# Altium integrated library NSC LDO.IntLib: 2590 symbols (part 18 of 64)
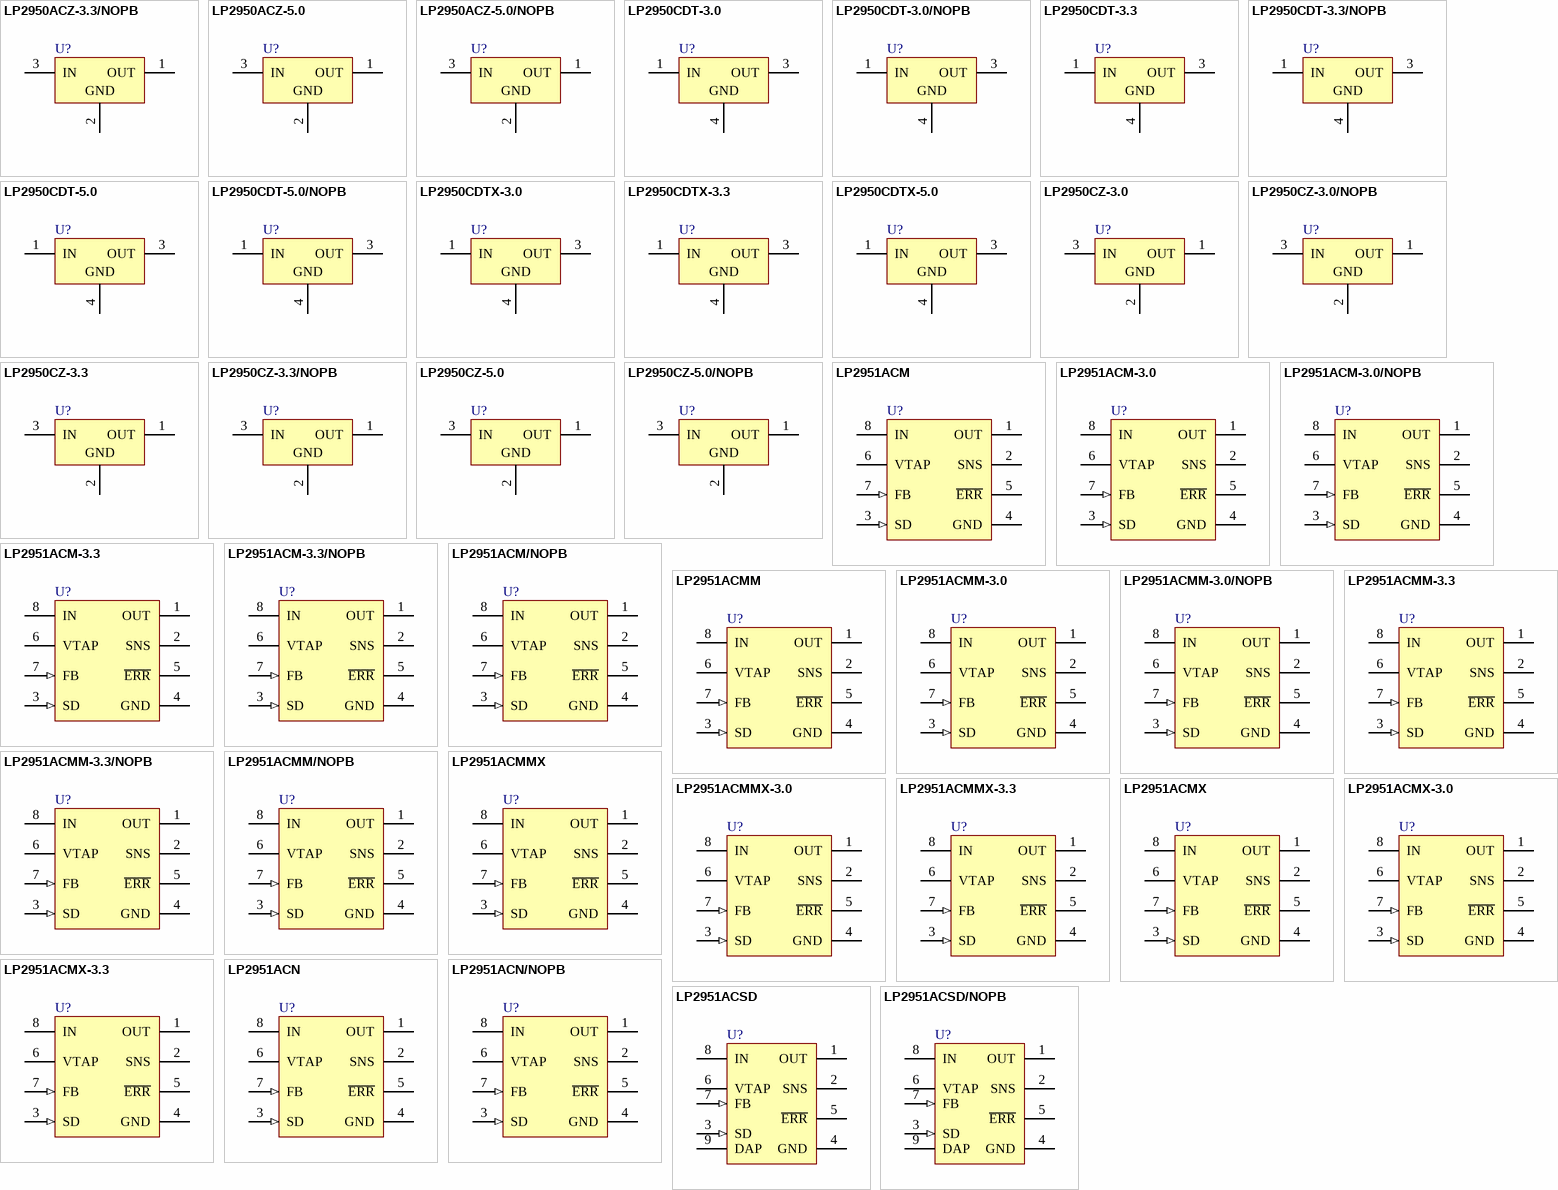
[diagram p82: symbols LP2950ACZ-3.3/NOPB to LP2951ACSD/NOPB]

## LP2951ACM-3.0/NOPB
designator U?
Series of Adjustable Micropower Voltage Regulators, 8-pin Narrow SOIC, Pb-Free; PartNumber: LP2951ACM-3.0/NOPB; Manufacturer: National Semiconductor; PackageTopMarking: NSZXTT*2951A*CM30DD; PowerWise: N; CompType: LDO IC; Published: 1-Mar-2010; DatasheetVersion: Jun-2009; PackageVersion: revM, May-2009; PackageReference: M08A; Publisher: Altium Limited; PackageDescription: SOIC Narrow, 4.9 x 3.9 x 1.45mm, 8 Lead, 1.27mm Pitch; Supplier 1: Digi-Key; Supplier Part Number 1: LP2951ACM-3.0-ND; Supplier 2: Farnell; Supplier Part Number 2: 1559557; RoHS: Y; PinCount: 8; Code_JEDEC: MS-012-AA; Code_IPC: SOIC127P600-8; ComponentLink1Description: LP2951 Datasheet; ComponentLink1URL: http://www.national.com/ds/LP/LP2951.pdf; ComponentLink2Description: LP2951 Web Page; ComponentLink2URL: http://www.national.com/pf/LP/LP2951.html; ComponentLink3Description: M08A Package Page; ComponentLink3URL: http://www.national.com/packaging/folders/m08a.html
footprint M08A_N (SOIC, 8-Leads, Body 4.9x3.9mm, Pitch 1.27mm, IPC Medium Density)
footprint M08A_L (SOIC, 8-Leads, Body 4.9x3.9mm, Pitch 1.27mm, IPC High Density)
footprint M08A_M (SOIC, 8-Leads, Body 4.9x3.9mm, Pitch 1.27mm, IPC Low Density)
pins: 1 OUT (power), 2 SNS, 3 SD (in), 4 GND (power), 5 ~{ERR} (oc), 6 VTAP, 7 FB (in), 8 IN (power)

## LP2951ACM-3.3
designator U?
Series of Adjustable Micropower Voltage Regulators, 8-pin Narrow SOIC; PartNumber: LP2951ACM-3.3; Manufacturer: National Semiconductor; PackageTopMarking: NSZXTT*2951A*CM33DD; PowerWise: N; CompType: LDO IC; Published: 4-Dec-2008; LatestRevisionDate: 07-Sep-2009; LatestRevisionNote: Bar removed from pin 3; DatasheetVersion: Jun-2009; PackageVersion: revM, May-2009; PackageReference: M08A; Publisher: Altium Limited; PackageDescription: SOIC Narrow, 4.9 x 3.9 x 1.45mm, 8 Lead, 1.27mm Pitch; Supplier 1: Farnell; Supplier Part Number 1: 4343633; RoHS: N; PinCount: 8; Code_JEDEC: MS-012-AA; Code_IPC: SOIC127P600-8; ComponentLink1Description: LP2951 Datasheet; ComponentLink1URL: http://www.national.com/ds/LP/LP2951.pdf; ComponentLink2Description: LP2951 Web Page; ComponentLink2URL: http://www.national.com/pf/LP/LP2951.html; ComponentLink3Description: M08A Package Page; ComponentLink3URL: http://www.national.com/packaging/folders/m08a.html
footprint M08A_N (SOIC, 8-Leads, Body 4.9x3.9mm, Pitch 1.27mm, IPC Medium Density)
footprint M08A_L (SOIC, 8-Leads, Body 4.9x3.9mm, Pitch 1.27mm, IPC High Density)
footprint M08A_M (SOIC, 8-Leads, Body 4.9x3.9mm, Pitch 1.27mm, IPC Low Density)
pins: 1 OUT (power), 2 SNS, 3 SD (in), 4 GND (power), 5 ~{ERR} (oc), 6 VTAP, 7 FB (in), 8 IN (power)

## LP2951ACM-3.3/NOPB
designator U?
Series of Adjustable Micropower Voltage Regulators, 8-pin Narrow SOIC, Pb-Free; PartNumber: LP2951ACM-3.3/NOPB; Manufacturer: National Semiconductor; PackageTopMarking: NSZXTT*2951A*CM33DD; PowerWise: N; CompType: LDO IC; Published: 1-Mar-2010; DatasheetVersion: Jun-2009; PackageVersion: revM, May-2009; PackageReference: M08A; Publisher: Altium Limited; PackageDescription: SOIC Narrow, 4.9 x 3.9 x 1.45mm, 8 Lead, 1.27mm Pitch; Supplier 1: Digi-Key; Supplier Part Number 1: LP2951ACM-3.3-ND; Supplier 2: Farnell; Supplier Part Number 2: 1469119; RoHS: Y; PinCount: 8; Code_JEDEC: MS-012-AA; Code_IPC: SOIC127P600-8; ComponentLink1Description: LP2951 Datasheet; ComponentLink1URL: http://www.national.com/ds/LP/LP2951.pdf; ComponentLink2Description: LP2951 Web Page; ComponentLink2URL: http://www.national.com/pf/LP/LP2951.html; ComponentLink3Description: M08A Package Page; ComponentLink3URL: http://www.national.com/packaging/folders/m08a.html
footprint M08A_N (SOIC, 8-Leads, Body 4.9x3.9mm, Pitch 1.27mm, IPC Medium Density)
footprint M08A_L (SOIC, 8-Leads, Body 4.9x3.9mm, Pitch 1.27mm, IPC High Density)
footprint M08A_M (SOIC, 8-Leads, Body 4.9x3.9mm, Pitch 1.27mm, IPC Low Density)
pins: 1 OUT (power), 2 SNS, 3 SD (in), 4 GND (power), 5 ~{ERR} (oc), 6 VTAP, 7 FB (in), 8 IN (power)

## LP2951ACM/NOPB
designator U?
Series of Adjustable Micropower Voltage Regulators, 8-pin Narrow SOIC, Pb-Free; PartNumber: LP2951ACM/NOPB; Manufacturer: National Semiconductor; PackageTopMarking: NSZXTT*2951*ACMDD; PowerWise: N; CompType: LDO IC; Published: 1-Mar-2010; DatasheetVersion: Jun-2009; PackageVersion: revM, May-2009; PackageReference: M08A; Publisher: Altium Limited; PackageDescription: SOIC Narrow, 4.9 x 3.9 x 1.45mm, 8 Lead, 1.27mm Pitch; Supplier 1: Digi-Key; Supplier Part Number 1: LP2951ACM-ND; RoHS: Y; PinCount: 8; Code_JEDEC: MS-012-AA; Code_IPC: SOIC127P600-8; ComponentLink1Description: LP2951 Datasheet; ComponentLink1URL: http://www.national.com/ds/LP/LP2951.pdf; ComponentLink2Description: LP2951 Web Page; ComponentLink2URL: http://www.national.com/pf/LP/LP2951.html; ComponentLink3Description: M08A Package Page; ComponentLink3URL: http://www.national.com/packaging/folders/m08a.html
footprint M08A_N (SOIC, 8-Leads, Body 4.9x3.9mm, Pitch 1.27mm, IPC Medium Density)
footprint M08A_L (SOIC, 8-Leads, Body 4.9x3.9mm, Pitch 1.27mm, IPC High Density)
footprint M08A_M (SOIC, 8-Leads, Body 4.9x3.9mm, Pitch 1.27mm, IPC Low Density)
pins: 1 OUT (power), 2 SNS, 3 SD (in), 4 GND (power), 5 ~{ERR} (oc), 6 VTAP, 7 FB (in), 8 IN (power)

## LP2951ACMM
designator U?
Series of Adjustable Micropower Voltage Regulators, 8-pin Mini SOIC; PartNumber: LP2951ACMM; Manufacturer: National Semiconductor; PackageTopMarking: ZXTT*L0DA; PowerWise: N; CompType: LDO IC; Published: 4-Dec-2008; LatestRevisionDate: 07-Sep-2009; LatestRevisionNote: Bar removed from pin 3; DatasheetVersion: Jun-2009; PackageVersion: revF, Apr-2008; PackageReference: MUA08A; Publisher: Altium Limited; PackageDescription: MINI SOIC, .118 x .118 x .034in, 8 Lead, .0256in Pitch; RoHS: N; PinCount: 8; Code_JEDEC: MO-187-AA; ComponentLink1Description: LP2951 Datasheet; ComponentLink1URL: http://www.national.com/ds/LP/LP2951.pdf; ComponentLink2Description: LP2951 Web Page; ComponentLink2URL: http://www.national.com/pf/LP/LP2951.html; ComponentLink3Description: MUA08A Package Page; ComponentLink3URL: http://www.national.com/packaging/folders/mua08a.html
footprint MUA08A_N (TSOP, 8-Leads, Body 3x3mm, Pitch 0.65mm, IPC Medium Density)
footprint MUA08A_L (TSOP, 8-Leads, Body 3x3mm, Pitch 0.65mm, IPC High Density)
footprint MUA08A_M (TSOP, 8-Leads, Body 3x3mm, Pitch 0.65mm, IPC Low Density)
pins: 1 OUT (power), 2 SNS, 3 SD (in), 4 GND (power), 5 ~{ERR} (oc), 6 VTAP, 7 FB (in), 8 IN (power)

## LP2951ACMM-3.0
designator U?
Series of Adjustable Micropower Voltage Regulators, 8-pin Mini SOIC; PartNumber: LP2951ACMM-3.0; Manufacturer: National Semiconductor; PackageTopMarking: ZXTT*L0BA; PowerWise: N; CompType: LDO IC; Published: 4-Dec-2008; LatestRevisionDate: 07-Sep-2009; LatestRevisionNote: Bar removed from pin 3; DatasheetVersion: Jun-2009; PackageVersion: revF, Apr-2008; PackageReference: MUA08A; Publisher: Altium Limited; PackageDescription: MINI SOIC, .118 x .118 x .034in, 8 Lead, .0256in Pitch; Supplier 1: Digi-Key; Supplier Part Number 1: LP2951ACMM-3.0TR-ND; Supplier 2: Digi-Key; Supplier Part Number 2: LP2951ACMM-3.0CT-ND; RoHS: N; PinCount: 8; Code_JEDEC: MO-187-AA; ComponentLink1Description: LP2951 Datasheet; ComponentLink1URL: http://www.national.com/ds/LP/LP2951.pdf; ComponentLink2Description: LP2951 Web Page; ComponentLink2URL: http://www.national.com/pf/LP/LP2951.html; ComponentLink3Description: MUA08A Package Page; ComponentLink3URL: http://www.national.com/packaging/folders/mua08a.html
footprint MUA08A_N (TSOP, 8-Leads, Body 3x3mm, Pitch 0.65mm, IPC Medium Density)
footprint MUA08A_L (TSOP, 8-Leads, Body 3x3mm, Pitch 0.65mm, IPC High Density)
footprint MUA08A_M (TSOP, 8-Leads, Body 3x3mm, Pitch 0.65mm, IPC Low Density)
pins: 1 OUT (power), 2 SNS, 3 SD (in), 4 GND (power), 5 ~{ERR} (oc), 6 VTAP, 7 FB (in), 8 IN (power)

## LP2951ACMM-3.0/NOPB
designator U?
Series of Adjustable Micropower Voltage Regulators, 8-pin Mini SOIC, Pb-Free; PartNumber: LP2951ACMM-3.0/NOPB; Manufacturer: National Semiconductor; PackageTopMarking: ZXTT*L0BA; PowerWise: N; CompType: LDO IC; Published: 1-Mar-2010; DatasheetVersion: Jun-2009; PackageVersion: revF, Apr-2008; PackageReference: MUA08A; Publisher: Altium Limited; PackageDescription: MINI SOIC, .118 x .118 x .034in, 8 Lead, .0256in Pitch; Supplier 1: Digi-Key; Supplier Part Number 1: LP2951ACMM-3.0/NOPBTR-ND; Supplier 2: Digi-Key; Supplier Part Number 2: LP2951ACMM-3.0/NOPBCT-ND; Supplier 3: Digi-Key; Supplier Part Number 3: LP2951ACMM-3.0/NOPBDKR-ND; RoHS: Y; PinCount: 8; Code_JEDEC: MO-187-AA; ComponentLink1Description: LP2951 Datasheet; ComponentLink1URL: http://www.national.com/ds/LP/LP2951.pdf; ComponentLink2Description: LP2951 Web Page; ComponentLink2URL: http://www.national.com/pf/LP/LP2951.html; ComponentLink3Description: MUA08A Package Page; ComponentLink3URL: http://www.national.com/packaging/folders/mua08a.html
footprint MUA08A_N (TSOP, 8-Leads, Body 3x3mm, Pitch 0.65mm, IPC Medium Density)
footprint MUA08A_L (TSOP, 8-Leads, Body 3x3mm, Pitch 0.65mm, IPC High Density)
footprint MUA08A_M (TSOP, 8-Leads, Body 3x3mm, Pitch 0.65mm, IPC Low Density)
pins: 1 OUT (power), 2 SNS, 3 SD (in), 4 GND (power), 5 ~{ERR} (oc), 6 VTAP, 7 FB (in), 8 IN (power)

## LP2951ACMM-3.3
designator U?
Series of Adjustable Micropower Voltage Regulators, 8-pin Mini SOIC; PartNumber: LP2951ACMM-3.3; Manufacturer: National Semiconductor; PackageTopMarking: ZXTT*L0CA; PowerWise: N; CompType: LDO IC; Published: 4-Dec-2008; LatestRevisionDate: 07-Sep-2009; LatestRevisionNote: Bar removed from pin 3; DatasheetVersion: Jun-2009; PackageVersion: revF, Apr-2008; PackageReference: MUA08A; Publisher: Altium Limited; PackageDescription: MINI SOIC, .118 x .118 x .034in, 8 Lead, .0256in Pitch; RoHS: N; PinCount: 8; Code_JEDEC: MO-187-AA; ComponentLink1Description: LP2951 Datasheet; ComponentLink1URL: http://www.national.com/ds/LP/LP2951.pdf; ComponentLink2Description: LP2951 Web Page; ComponentLink2URL: http://www.national.com/pf/LP/LP2951.html; ComponentLink3Description: MUA08A Package Page; ComponentLink3URL: http://www.national.com/packaging/folders/mua08a.html
footprint MUA08A_N (TSOP, 8-Leads, Body 3x3mm, Pitch 0.65mm, IPC Medium Density)
footprint MUA08A_L (TSOP, 8-Leads, Body 3x3mm, Pitch 0.65mm, IPC High Density)
footprint MUA08A_M (TSOP, 8-Leads, Body 3x3mm, Pitch 0.65mm, IPC Low Density)
pins: 1 OUT (power), 2 SNS, 3 SD (in), 4 GND (power), 5 ~{ERR} (oc), 6 VTAP, 7 FB (in), 8 IN (power)

## LP2951ACMM-3.3/NOPB
designator U?
Series of Adjustable Micropower Voltage Regulators, 8-pin Mini SOIC, Pb-Free; PartNumber: LP2951ACMM-3.3/NOPB; Manufacturer: National Semiconductor; PackageTopMarking: ZXTT*L0CA; PowerWise: N; CompType: LDO IC; Published: 1-Mar-2010; DatasheetVersion: Jun-2009; PackageVersion: revF, Apr-2008; PackageReference: MUA08A; Publisher: Altium Limited; PackageDescription: MINI SOIC, .118 x .118 x .034in, 8 Lead, .0256in Pitch; Supplier 1: Digi-Key; Supplier Part Number 1: LP2951ACMM-3.3TR-ND; Supplier 2: Digi-Key; Supplier Part Number 2: LP2951ACMM-3.3CT-ND; Supplier 3: Digi-Key; Supplier Part Number 3: LP2951ACMM-3.3DKR-ND; Supplier 4: Farnell; Supplier Part Number 4: 1559558; RoHS: Y; PinCount: 8; Code_JEDEC: MO-187-AA; ComponentLink1Description: LP2951 Datasheet; ComponentLink1URL: http://www.national.com/ds/LP/LP2951.pdf; ComponentLink2Description: LP2951 Web Page; ComponentLink2URL: http://www.national.com/pf/LP/LP2951.html; ComponentLink3Description: MUA08A Package Page; ComponentLink3URL: http://www.national.com/packaging/folders/mua08a.html
footprint MUA08A_N (TSOP, 8-Leads, Body 3x3mm, Pitch 0.65mm, IPC Medium Density)
footprint MUA08A_L (TSOP, 8-Leads, Body 3x3mm, Pitch 0.65mm, IPC High Density)
footprint MUA08A_M (TSOP, 8-Leads, Body 3x3mm, Pitch 0.65mm, IPC Low Density)
pins: 1 OUT (power), 2 SNS, 3 SD (in), 4 GND (power), 5 ~{ERR} (oc), 6 VTAP, 7 FB (in), 8 IN (power)

## LP2951ACMM/NOPB
designator U?
Series of Adjustable Micropower Voltage Regulators, 8-pin Mini SOIC, Pb-Free; PartNumber: LP2951ACMM/NOPB; Manufacturer: National Semiconductor; PackageTopMarking: ZXTT*L0DA; PowerWise: N; CompType: LDO IC; Published: 1-Mar-2010; DatasheetVersion: Jun-2009; PackageVersion: revF, Apr-2008; PackageReference: MUA08A; Publisher: Altium Limited; PackageDescription: MINI SOIC, .118 x .118 x .034in, 8 Lead, .0256in Pitch; Supplier 1: Digi-Key; Supplier Part Number 1: LP2951ACMMTR-ND; Supplier 2: Digi-Key; Supplier Part Number 2: LP2951ACMMCT-ND; Supplier 3: Digi-Key; Supplier Part Number 3: LP2951ACMMDKR-ND; Supplier 4: Farnell; Supplier Part Number 4: 1469120; RoHS: Y; PinCount: 8; Code_JEDEC: MO-187-AA; ComponentLink1Description: LP2951 Datasheet; ComponentLink1URL: http://www.national.com/ds/LP/LP2951.pdf; ComponentLink2Description: LP2951 Web Page; ComponentLink2URL: http://www.national.com/pf/LP/LP2951.html; ComponentLink3Description: MUA08A Package Page; ComponentLink3URL: http://www.national.com/packaging/folders/mua08a.html
footprint MUA08A_N (TSOP, 8-Leads, Body 3x3mm, Pitch 0.65mm, IPC Medium Density)
footprint MUA08A_L (TSOP, 8-Leads, Body 3x3mm, Pitch 0.65mm, IPC High Density)
footprint MUA08A_M (TSOP, 8-Leads, Body 3x3mm, Pitch 0.65mm, IPC Low Density)
pins: 1 OUT (power), 2 SNS, 3 SD (in), 4 GND (power), 5 ~{ERR} (oc), 6 VTAP, 7 FB (in), 8 IN (power)

## LP2951ACMMX
designator U?
Series of Adjustable Micropower Voltage Regulators, 8-pin Mini SOIC; PartNumber: LP2951ACMMX; Manufacturer: National Semiconductor; PackageTopMarking: ZXTT*L0DA; PowerWise: N; CompType: LDO IC; Published: 1-Mar-2010; DatasheetVersion: Jun-2009; PackageVersion: revF, Apr-2008; PackageReference: MUA08A; Publisher: Altium Limited; PackageDescription: MINI SOIC, .118 x .118 x .034in, 8 Lead, .0256in Pitch; RoHS: N; PinCount: 8; Code_JEDEC: MO-187-AA; ComponentLink1Description: LP2951 Datasheet; ComponentLink1URL: http://www.national.com/ds/LP/LP2951.pdf; ComponentLink2Description: LP2951 Web Page; ComponentLink2URL: http://www.national.com/pf/LP/LP2951.html; ComponentLink3Description: MUA08A Package Page; ComponentLink3URL: http://www.national.com/packaging/folders/mua08a.html
footprint MUA08A_N (TSOP, 8-Leads, Body 3x3mm, Pitch 0.65mm, IPC Medium Density)
footprint MUA08A_L (TSOP, 8-Leads, Body 3x3mm, Pitch 0.65mm, IPC High Density)
footprint MUA08A_M (TSOP, 8-Leads, Body 3x3mm, Pitch 0.65mm, IPC Low Density)
pins: 1 OUT (power), 2 SNS, 3 SD (in), 4 GND (power), 5 ~{ERR} (oc), 6 VTAP, 7 FB (in), 8 IN (power)

## LP2951ACMMX-3.0
designator U?
Series of Adjustable Micropower Voltage Regulators, 8-pin Mini SOIC; PartNumber: LP2951ACMMX-3.0; Manufacturer: National Semiconductor; PackageTopMarking: ZXTT*L0BA; PowerWise: N; CompType: LDO IC; Published: 1-Mar-2010; DatasheetVersion: Jun-2009; PackageVersion: revF, Apr-2008; PackageReference: MUA08A; Publisher: Altium Limited; PackageDescription: MINI SOIC, .118 x .118 x .034in, 8 Lead, .0256in Pitch; Supplier 1: Digi-Key; Supplier Part Number 1: LP2951ACMMX-3.0TR-ND; Supplier 2: Digi-Key; Supplier Part Number 2: LP2951ACMMX-3.0CT-ND; RoHS: N; PinCount: 8; Code_JEDEC: MO-187-AA; ComponentLink1Description: LP2951 Datasheet; ComponentLink1URL: http://www.national.com/ds/LP/LP2951.pdf; ComponentLink2Description: LP2951 Web Page; ComponentLink2URL: http://www.national.com/pf/LP/LP2951.html; ComponentLink3Description: MUA08A Package Page; ComponentLink3URL: http://www.national.com/packaging/folders/mua08a.html
footprint MUA08A_N (TSOP, 8-Leads, Body 3x3mm, Pitch 0.65mm, IPC Medium Density)
footprint MUA08A_L (TSOP, 8-Leads, Body 3x3mm, Pitch 0.65mm, IPC High Density)
footprint MUA08A_M (TSOP, 8-Leads, Body 3x3mm, Pitch 0.65mm, IPC Low Density)
pins: 1 OUT (power), 2 SNS, 3 SD (in), 4 GND (power), 5 ~{ERR} (oc), 6 VTAP, 7 FB (in), 8 IN (power)

## LP2951ACMMX-3.3
designator U?
Series of Adjustable Micropower Voltage Regulators, 8-pin Mini SOIC; PartNumber: LP2951ACMMX-3.3; Manufacturer: National Semiconductor; PackageTopMarking: ZXTT*L0CA; PowerWise: N; CompType: LDO IC; Published: 1-Mar-2010; DatasheetVersion: Jun-2009; PackageVersion: revF, Apr-2008; PackageReference: MUA08A; Publisher: Altium Limited; PackageDescription: MINI SOIC, .118 x .118 x .034in, 8 Lead, .0256in Pitch; RoHS: N; PinCount: 8; Code_JEDEC: MO-187-AA; ComponentLink1Description: LP2951 Datasheet; ComponentLink1URL: http://www.national.com/ds/LP/LP2951.pdf; ComponentLink2Description: LP2951 Web Page; ComponentLink2URL: http://www.national.com/pf/LP/LP2951.html; ComponentLink3Description: MUA08A Package Page; ComponentLink3URL: http://www.national.com/packaging/folders/mua08a.html
footprint MUA08A_N (TSOP, 8-Leads, Body 3x3mm, Pitch 0.65mm, IPC Medium Density)
footprint MUA08A_L (TSOP, 8-Leads, Body 3x3mm, Pitch 0.65mm, IPC High Density)
footprint MUA08A_M (TSOP, 8-Leads, Body 3x3mm, Pitch 0.65mm, IPC Low Density)
pins: 1 OUT (power), 2 SNS, 3 SD (in), 4 GND (power), 5 ~{ERR} (oc), 6 VTAP, 7 FB (in), 8 IN (power)

## LP2951ACMX
designator U?
Series of Adjustable Micropower Voltage Regulators, 8-pin Narrow SOIC; PartNumber: LP2951ACMX; Manufacturer: National Semiconductor; PackageTopMarking: NSZXTT*2951*ACMDD; PowerWise: N; CompType: LDO IC; Published: 1-Mar-2010; DatasheetVersion: Jun-2009; PackageVersion: revM, May-2009; PackageReference: M08A; Publisher: Altium Limited; PackageDescription: SOIC Narrow, 4.9 x 3.9 x 1.45mm, 8 Lead, 1.27mm Pitch; RoHS: N; PinCount: 8; Code_JEDEC: MS-012-AA; Code_IPC: SOIC127P600-8; ComponentLink1Description: LP2951 Datasheet; ComponentLink1URL: http://www.national.com/ds/LP/LP2951.pdf; ComponentLink2Description: LP2951 Web Page; ComponentLink2URL: http://www.national.com/pf/LP/LP2951.html; ComponentLink3Description: M08A Package Page; ComponentLink3URL: http://www.national.com/packaging/folders/m08a.html
footprint M08A_N (SOIC, 8-Leads, Body 4.9x3.9mm, Pitch 1.27mm, IPC Medium Density)
footprint M08A_L (SOIC, 8-Leads, Body 4.9x3.9mm, Pitch 1.27mm, IPC High Density)
footprint M08A_M (SOIC, 8-Leads, Body 4.9x3.9mm, Pitch 1.27mm, IPC Low Density)
pins: 1 OUT (power), 2 SNS, 3 SD (in), 4 GND (power), 5 ~{ERR} (oc), 6 VTAP, 7 FB (in), 8 IN (power)

## LP2951ACMX-3.0
designator U?
Series of Adjustable Micropower Voltage Regulators, 8-pin Narrow SOIC; PartNumber: LP2951ACMX-3.0; Manufacturer: National Semiconductor; PackageTopMarking: NSZXTT*2951A*CM30DD; PowerWise: N; CompType: LDO IC; Published: 1-Mar-2010; DatasheetVersion: Jun-2009; PackageVersion: revM, May-2009; PackageReference: M08A; Publisher: Altium Limited; PackageDescription: SOIC Narrow, 4.9 x 3.9 x 1.45mm, 8 Lead, 1.27mm Pitch; RoHS: N; PinCount: 8; Code_JEDEC: MS-012-AA; Code_IPC: SOIC127P600-8; ComponentLink1Description: LP2951 Datasheet; ComponentLink1URL: http://www.national.com/ds/LP/LP2951.pdf; ComponentLink2Description: LP2951 Web Page; ComponentLink2URL: http://www.national.com/pf/LP/LP2951.html; ComponentLink3Description: M08A Package Page; ComponentLink3URL: http://www.national.com/packaging/folders/m08a.html
footprint M08A_N (SOIC, 8-Leads, Body 4.9x3.9mm, Pitch 1.27mm, IPC Medium Density)
footprint M08A_L (SOIC, 8-Leads, Body 4.9x3.9mm, Pitch 1.27mm, IPC High Density)
footprint M08A_M (SOIC, 8-Leads, Body 4.9x3.9mm, Pitch 1.27mm, IPC Low Density)
pins: 1 OUT (power), 2 SNS, 3 SD (in), 4 GND (power), 5 ~{ERR} (oc), 6 VTAP, 7 FB (in), 8 IN (power)

## LP2951ACMX-3.3
designator U?
Series of Adjustable Micropower Voltage Regulators, 8-pin Narrow SOIC; PartNumber: LP2951ACMX-3.3; Manufacturer: National Semiconductor; PackageTopMarking: NSZXTT*2951A*CM33DD; PowerWise: N; CompType: LDO IC; Published: 1-Mar-2010; DatasheetVersion: Jun-2009; PackageVersion: revM, May-2009; PackageReference: M08A; Publisher: Altium Limited; PackageDescription: SOIC Narrow, 4.9 x 3.9 x 1.45mm, 8 Lead, 1.27mm Pitch; RoHS: N; PinCount: 8; Code_JEDEC: MS-012-AA; Code_IPC: SOIC127P600-8; ComponentLink1Description: LP2951 Datasheet; ComponentLink1URL: http://www.national.com/ds/LP/LP2951.pdf; ComponentLink2Description: LP2951 Web Page; ComponentLink2URL: http://www.national.com/pf/LP/LP2951.html; ComponentLink3Description: M08A Package Page; ComponentLink3URL: http://www.national.com/packaging/folders/m08a.html
footprint M08A_N (SOIC, 8-Leads, Body 4.9x3.9mm, Pitch 1.27mm, IPC Medium Density)
footprint M08A_L (SOIC, 8-Leads, Body 4.9x3.9mm, Pitch 1.27mm, IPC High Density)
footprint M08A_M (SOIC, 8-Leads, Body 4.9x3.9mm, Pitch 1.27mm, IPC Low Density)
pins: 1 OUT (power), 2 SNS, 3 SD (in), 4 GND (power), 5 ~{ERR} (oc), 6 VTAP, 7 FB (in), 8 IN (power)

## LP2951ACN
designator U?
Series of Adjustable Micropower Voltage Regulators, 8-pin MDIP; PartNumber: LP2951ACN; Manufacturer: National Semiconductor; PackageTopMarking: NSUZXYTTE#*LP*2951ACN; PowerWise: N; CompType: LDO IC; Published: 4-Dec-2008; LatestRevisionDate: 07-Sep-2009; LatestRevisionNote: Bar removed from pin 3; DatasheetVersion: Jun-2009; PackageVersion: revG, May-2006; PackageReference: N08E; Publisher: Altium Limited; PackageDescription: MDIP, .365 x .250 x .130in, 8 Lead, .100in Pitch; Supplier 1: Farnell; Supplier Part Number 1: 9488553; RoHS: N; PinCount: 8; Code_JEDEC: MS-001-BA; ComponentLink1Description: LP2951 Datasheet; ComponentLink1URL: http://www.national.com/ds/LP/LP2951.pdf; ComponentLink2Description: LP2951 Web Page; ComponentLink2URL: http://www.national.com/pf/LP/LP2951.html; ComponentLink3Description: N08E Package Page; ComponentLink3URL: http://www.national.com/packaging/folders/n08e.html
footprint N08E (DIP, 8-Leads, Row Spacing 7.62mm, Pitch 2.54mm, Body 9.91x6.35mm)
pins: 1 OUT (power), 2 SNS, 3 SD (in), 4 GND (power), 5 ~{ERR} (oc), 6 VTAP, 7 FB (in), 8 IN (power)

## LP2951ACN/NOPB
designator U?
Series of Adjustable Micropower Voltage Regulators, 8-pin MDIP, Pb-Free; PartNumber: LP2951ACN/NOPB; Manufacturer: National Semiconductor; PackageTopMarking: NSUZXYTTE#*LP*2951ACN; PowerWise: N; CompType: LDO IC; Published: 1-Mar-2010; DatasheetVersion: Jun-2009; PackageVersion: revG, May-2006; PackageReference: N08E; Publisher: Altium Limited; PackageDescription: MDIP, .365 x .250 x .130in, 8 Lead, .100in Pitch; Supplier 1: Digi-Key; Supplier Part Number 1: LP2951ACN-ND; Supplier 2: Farnell; Supplier Part Number 2: 1694034; RoHS: Y; PinCount: 8; Code_JEDEC: MS-001-BA; ComponentLink1Description: LP2951 Datasheet; ComponentLink1URL: http://www.national.com/ds/LP/LP2951.pdf; ComponentLink2Description: LP2951 Web Page; ComponentLink2URL: http://www.national.com/pf/LP/LP2951.html; ComponentLink3Description: N08E Package Page; ComponentLink3URL: http://www.national.com/packaging/folders/n08e.html
footprint N08E (DIP, 8-Leads, Row Spacing 7.62mm, Pitch 2.54mm, Body 9.91x6.35mm)
pins: 1 OUT (power), 2 SNS, 3 SD (in), 4 GND (power), 5 ~{ERR} (oc), 6 VTAP, 7 FB (in), 8 IN (power)

## LP2951ACSD
designator U?
Series of Adjustable Micropower Voltage Regulators, 8-pin LLP; PartNumber: LP2951ACSD; Manufacturer: National Semiconductor; PackageTopMarking: NS*UZXYTT*2951AC; PowerWise: N; CompType: LDO IC; Published: 4-Dec-2008; LatestRevisionDate: 07-Sep-2009; LatestRevisionNote: Bar removed from pin 3; DatasheetVersion: Jun-2009; PackageVersion: revA, Jun-2003; PackageReference: SDC08A; Publisher: Altium Limited; PackageDescription: LLP, Plastic, Dual, 4 x 4 x 0.8mm Body, 8 Lead, 0.8mm Pitch, No Pullback; RoHS: N; PinCount: 8; ComponentLink1Description: LP2951 Datasheet; ComponentLink1URL: http://www.national.com/ds/LP/LP2951.pdf; ComponentLink2Description: LP2951 Web Page; ComponentLink2URL: http://www.national.com/pf/LP/LP2951.html; ComponentLink3Description: SDC08A Package Page; ComponentLink3URL: http://www.national.com/packaging/folders/sdc08a.html
footprint SDC08A (SON, 8-Leads, Body 4x4mm, Pitch 0.8mm, NSC Recommended)
pins: 1 OUT (power), 2 SNS, 3 SD (in), 4 GND (power), 5 ~{ERR} (oc), 6 VTAP, 7 FB (in), 8 IN (power), 9 DAP (power)

## LP2951ACSD/NOPB
designator U?
Series of Adjustable Micropower Voltage Regulators, 8-pin LLP, Pb-Free; PartNumber: LP2951ACSD/NOPB; Manufacturer: National Semiconductor; PackageTopMarking: NS*UZXYTT*2951AC; PowerWise: N; CompType: LDO IC; Published: 1-Mar-2010; DatasheetVersion: Jun-2009; PackageVersion: revA, Jun-2003; PackageReference: SDC08A; Publisher: Altium Limited; PackageDescription: LLP, Plastic, Dual, 4 x 4 x 0.8mm Body, 8 Lead, 0.8mm Pitch, No Pullback; Supplier 1: Digi-Key; Supplier Part Number 1: LP2951ACSD-ND; RoHS: Y; PinCount: 8; ComponentLink1Description: LP2951 Datasheet; ComponentLink1URL: http://www.national.com/ds/LP/LP2951.pdf; ComponentLink2Description: LP2951 Web Page; ComponentLink2URL: http://www.national.com/pf/LP/LP2951.html; ComponentLink3Description: SDC08A Package Page; ComponentLink3URL: http://www.national.com/packaging/folders/sdc08a.html
footprint SDC08A (SON, 8-Leads, Body 4x4mm, Pitch 0.8mm, NSC Recommended)
pins: 1 OUT (power), 2 SNS, 3 SD (in), 4 GND (power), 5 ~{ERR} (oc), 6 VTAP, 7 FB (in), 8 IN (power), 9 DAP (power)

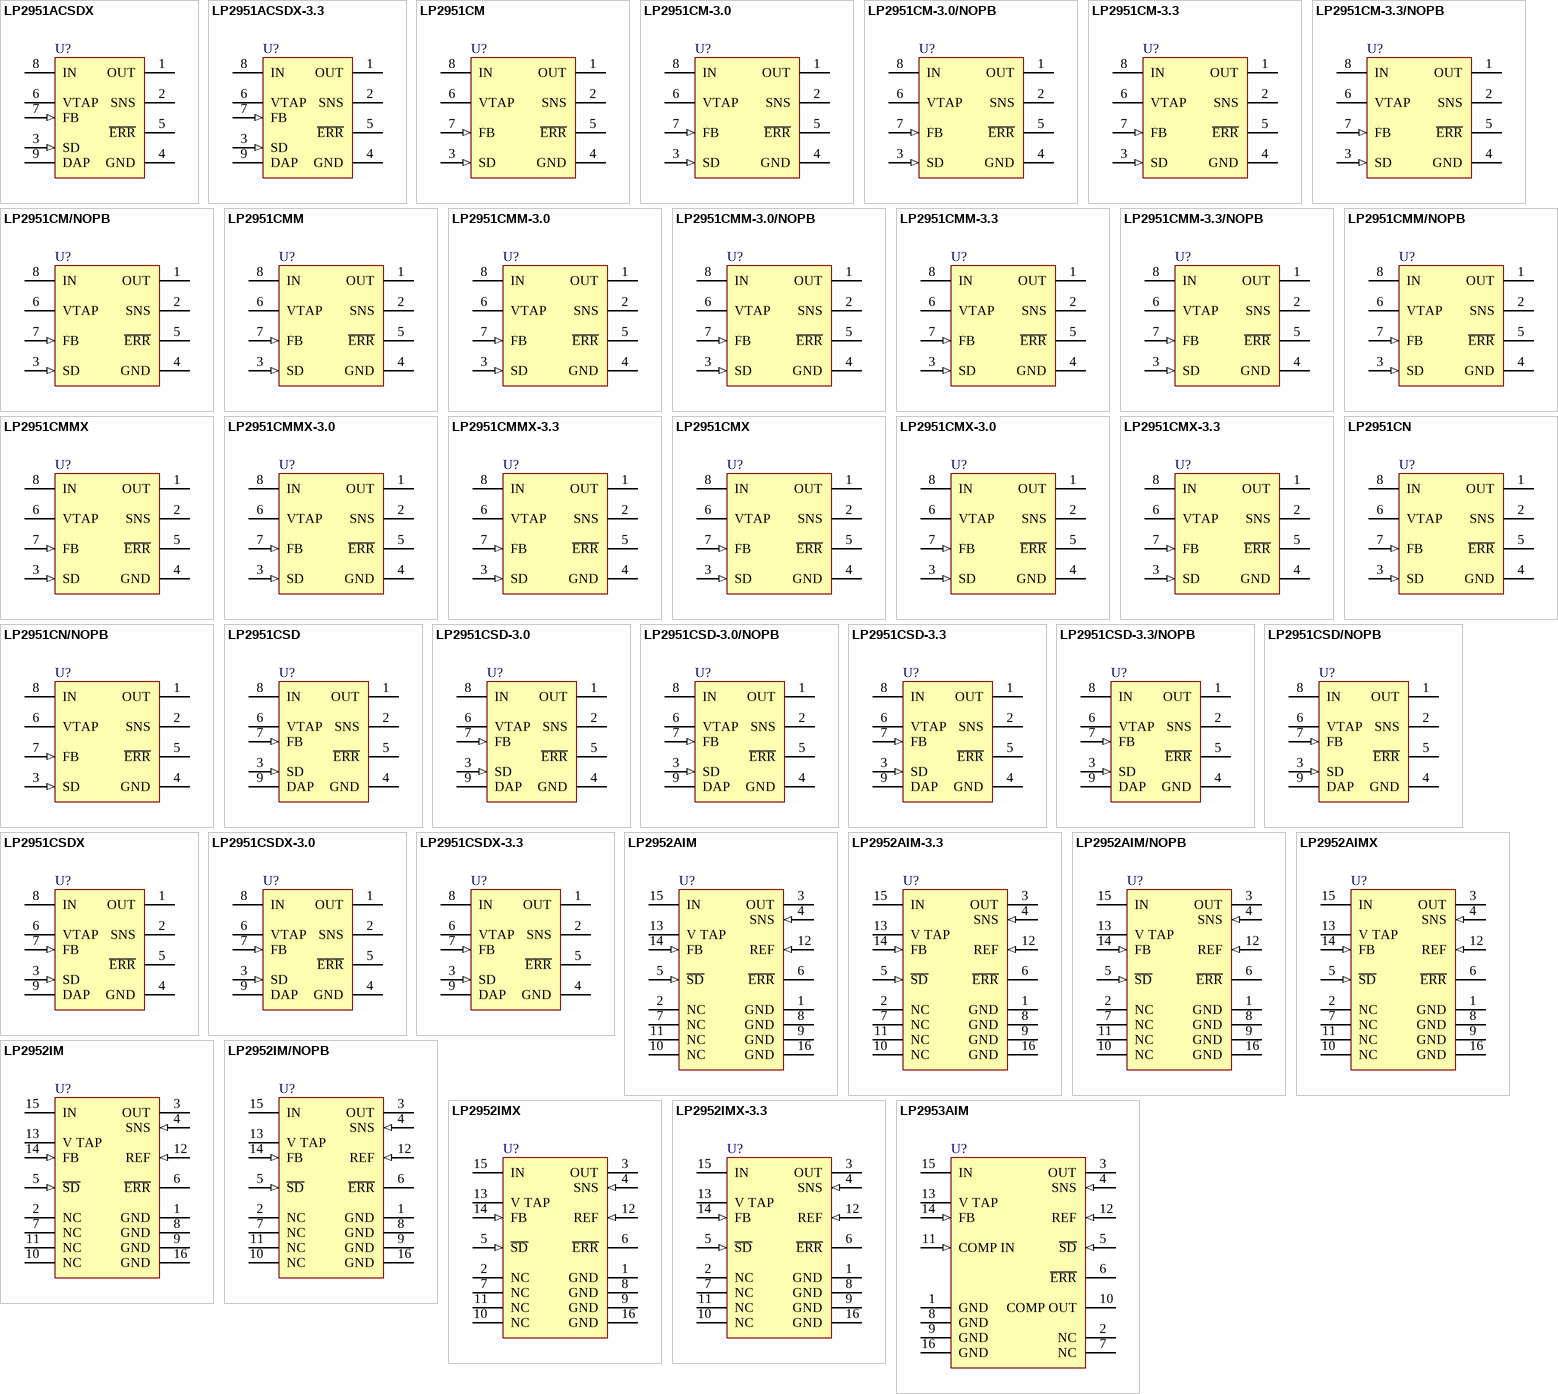
[diagram p19: symbols LP2951ACSDX to LP2953AIM]

## LP2951ACSDX
designator U?
Series of Adjustable Micropower Voltage Regulators, 8-pin LLP; PartNumber: LP2951ACSDX; Manufacturer: National Semiconductor; PackageTopMarking: NS*UZXYTT*2951AC; PowerWise: N; CompType: LDO IC; Published: 1-Mar-2010; DatasheetVersion: Jun-2009; PackageVersion: revA, Jun-2003; PackageReference: SDC08A; Publisher: Altium Limited; PackageDescription: LLP, Plastic, Dual, 4 x 4 x 0.8mm Body, 8 Lead, 0.8mm Pitch, No Pullback; RoHS: N; PinCount: 8; ComponentLink1Description: LP2951 Datasheet; ComponentLink1URL: http://www.national.com/ds/LP/LP2951.pdf; ComponentLink2Description: LP2951 Web Page; ComponentLink2URL: http://www.national.com/pf/LP/LP2951.html; ComponentLink3Description: SDC08A Package Page; ComponentLink3URL: http://www.national.com/packaging/folders/sdc08a.html
footprint SDC08A (SON, 8-Leads, Body 4x4mm, Pitch 0.8mm, NSC Recommended)
pins: 1 OUT (power), 2 SNS, 3 SD (in), 4 GND (power), 5 ~{ERR} (oc), 6 VTAP, 7 FB (in), 8 IN (power), 9 DAP (power)

## LP2951ACSDX-3.3
designator U?
Series of Adjustable Micropower Voltage Regulators, 8-pin LLP; PartNumber: LP2951ACSDX-3.3; Manufacturer: National Semiconductor; PackageTopMarking: NS*UZXYTT*51AC33; PowerWise: N; CompType: LDO IC; Published: 1-Mar-2010; DatasheetVersion: Jun-2009; PackageVersion: revA, Jun-2003; PackageReference: SDC08A; Publisher: Altium Limited; PackageDescription: LLP, Plastic, Dual, 4 x 4 x 0.8mm Body, 8 Lead, 0.8mm Pitch, No Pullback; RoHS: N; PinCount: 8; ComponentLink1Description: LP2951 Datasheet; ComponentLink1URL: http://www.national.com/ds/LP/LP2951.pdf; ComponentLink2Description: LP2951 Web Page; ComponentLink2URL: http://www.national.com/pf/LP/LP2951.html; ComponentLink3Description: SDC08A Package Page; ComponentLink3URL: http://www.national.com/packaging/folders/sdc08a.html
footprint SDC08A (SON, 8-Leads, Body 4x4mm, Pitch 0.8mm, NSC Recommended)
pins: 1 OUT (power), 2 SNS, 3 SD (in), 4 GND (power), 5 ~{ERR} (oc), 6 VTAP, 7 FB (in), 8 IN (power), 9 DAP (power)

## LP2951CM
designator U?
Series of Adjustable Micropower Voltage Regulators, 8-pin Narrow SOIC; PartNumber: LP2951CM; Manufacturer: National Semiconductor; PackageTopMarking: NSZXTT*2951*CMDD; PowerWise: N; CompType: LDO IC; Published: 4-Dec-2008; LatestRevisionDate: 07-Sep-2009; LatestRevisionNote: Bar removed from pin 3; DatasheetVersion: Jun-2009; PackageVersion: revM, May-2009; PackageReference: M08A; Publisher: Altium Limited; PackageDescription: SOIC Narrow, 4.9 x 3.9 x 1.45mm, 8 Lead, 1.27mm Pitch; Supplier 1: Farnell; Supplier Part Number 1: 9488561; RoHS: N; PinCount: 8; Code_JEDEC: MS-012-AA; Code_IPC: SOIC127P600-8; ComponentLink1Description: LP2951 Datasheet; ComponentLink1URL: http://www.national.com/ds/LP/LP2951.pdf; ComponentLink2Description: LP2951 Web Page; ComponentLink2URL: http://www.national.com/pf/LP/LP2951.html; ComponentLink3Description: M08A Package Page; ComponentLink3URL: http://www.national.com/packaging/folders/m08a.html
footprint M08A_N (SOIC, 8-Leads, Body 4.9x3.9mm, Pitch 1.27mm, IPC Medium Density)
footprint M08A_L (SOIC, 8-Leads, Body 4.9x3.9mm, Pitch 1.27mm, IPC High Density)
footprint M08A_M (SOIC, 8-Leads, Body 4.9x3.9mm, Pitch 1.27mm, IPC Low Density)
pins: 1 OUT (power), 2 SNS, 3 SD (in), 4 GND (power), 5 ~{ERR} (oc), 6 VTAP, 7 FB (in), 8 IN (power)

## LP2951CM-3.0
designator U?
Series of Adjustable Micropower Voltage Regulators, 8-pin Narrow SOIC; PartNumber: LP2951CM-3.0; Manufacturer: National Semiconductor; PackageTopMarking: NSZXTT*2951C*M30DD; PowerWise: N; CompType: LDO IC; Published: 4-Dec-2008; LatestRevisionDate: 07-Sep-2009; LatestRevisionNote: Bar removed from pin 3; DatasheetVersion: Jun-2009; PackageVersion: revM, May-2009; PackageReference: M08A; Publisher: Altium Limited; PackageDescription: SOIC Narrow, 4.9 x 3.9 x 1.45mm, 8 Lead, 1.27mm Pitch; RoHS: N; PinCount: 8; Code_JEDEC: MS-012-AA; Code_IPC: SOIC127P600-8; ComponentLink1Description: LP2951 Datasheet; ComponentLink1URL: http://www.national.com/ds/LP/LP2951.pdf; ComponentLink2Description: LP2951 Web Page; ComponentLink2URL: http://www.national.com/pf/LP/LP2951.html; ComponentLink3Description: M08A Package Page; ComponentLink3URL: http://www.national.com/packaging/folders/m08a.html
footprint M08A_N (SOIC, 8-Leads, Body 4.9x3.9mm, Pitch 1.27mm, IPC Medium Density)
footprint M08A_L (SOIC, 8-Leads, Body 4.9x3.9mm, Pitch 1.27mm, IPC High Density)
footprint M08A_M (SOIC, 8-Leads, Body 4.9x3.9mm, Pitch 1.27mm, IPC Low Density)
pins: 1 OUT (power), 2 SNS, 3 SD (in), 4 GND (power), 5 ~{ERR} (oc), 6 VTAP, 7 FB (in), 8 IN (power)

## LP2951CM-3.0/NOPB
designator U?
Series of Adjustable Micropower Voltage Regulators, 8-pin Narrow SOIC, Pb-Free; PartNumber: LP2951CM-3.0/NOPB; Manufacturer: National Semiconductor; PackageTopMarking: NSZXTT*2951C*M30DD; PowerWise: N; CompType: LDO IC; Published: 1-Mar-2010; DatasheetVersion: Jun-2009; PackageVersion: revM, May-2009; PackageReference: M08A; Publisher: Altium Limited; PackageDescription: SOIC Narrow, 4.9 x 3.9 x 1.45mm, 8 Lead, 1.27mm Pitch; Supplier 1: Digi-Key; Supplier Part Number 1: LP2951CM-3.0-ND; Supplier 2: Farnell; Supplier Part Number 2: 1685665; RoHS: Y; PinCount: 8; Code_JEDEC: MS-012-AA; Code_IPC: SOIC127P600-8; ComponentLink1Description: LP2951 Datasheet; ComponentLink1URL: http://www.national.com/ds/LP/LP2951.pdf; ComponentLink2Description: LP2951 Web Page; ComponentLink2URL: http://www.national.com/pf/LP/LP2951.html; ComponentLink3Description: M08A Package Page; ComponentLink3URL: http://www.national.com/packaging/folders/m08a.html
footprint M08A_N (SOIC, 8-Leads, Body 4.9x3.9mm, Pitch 1.27mm, IPC Medium Density)
footprint M08A_L (SOIC, 8-Leads, Body 4.9x3.9mm, Pitch 1.27mm, IPC High Density)
footprint M08A_M (SOIC, 8-Leads, Body 4.9x3.9mm, Pitch 1.27mm, IPC Low Density)
pins: 1 OUT (power), 2 SNS, 3 SD (in), 4 GND (power), 5 ~{ERR} (oc), 6 VTAP, 7 FB (in), 8 IN (power)

## LP2951CM-3.3
designator U?
Series of Adjustable Micropower Voltage Regulators, 8-pin Narrow SOIC; PartNumber: LP2951CM-3.3; Manufacturer: National Semiconductor; PackageTopMarking: NSZXTT*2951C*M33DD; PowerWise: N; CompType: LDO IC; Published: 4-Dec-2008; LatestRevisionDate: 07-Sep-2009; LatestRevisionNote: Bar removed from pin 3; DatasheetVersion: Jun-2009; PackageVersion: revM, May-2009; PackageReference: M08A; Publisher: Altium Limited; PackageDescription: SOIC Narrow, 4.9 x 3.9 x 1.45mm, 8 Lead, 1.27mm Pitch; RoHS: N; PinCount: 8; Code_JEDEC: MS-012-AA; Code_IPC: SOIC127P600-8; ComponentLink1Description: LP2951 Datasheet; ComponentLink1URL: http://www.national.com/ds/LP/LP2951.pdf; ComponentLink2Description: LP2951 Web Page; ComponentLink2URL: http://www.national.com/pf/LP/LP2951.html; ComponentLink3Description: M08A Package Page; ComponentLink3URL: http://www.national.com/packaging/folders/m08a.html
footprint M08A_N (SOIC, 8-Leads, Body 4.9x3.9mm, Pitch 1.27mm, IPC Medium Density)
footprint M08A_L (SOIC, 8-Leads, Body 4.9x3.9mm, Pitch 1.27mm, IPC High Density)
footprint M08A_M (SOIC, 8-Leads, Body 4.9x3.9mm, Pitch 1.27mm, IPC Low Density)
pins: 1 OUT (power), 2 SNS, 3 SD (in), 4 GND (power), 5 ~{ERR} (oc), 6 VTAP, 7 FB (in), 8 IN (power)

## LP2951CM-3.3/NOPB
designator U?
Series of Adjustable Micropower Voltage Regulators, 8-pin Narrow SOIC, Pb-Free; PartNumber: LP2951CM-3.3/NOPB; Manufacturer: National Semiconductor; PackageTopMarking: NSZXTT*2951C*M33DD; PowerWise: N; CompType: LDO IC; Published: 1-Mar-2010; DatasheetVersion: Jun-2009; PackageVersion: revM, May-2009; PackageReference: M08A; Publisher: Altium Limited; PackageDescription: SOIC Narrow, 4.9 x 3.9 x 1.45mm, 8 Lead, 1.27mm Pitch; Supplier 1: Digi-Key; Supplier Part Number 1: LP2951CM-3.3-ND; Supplier 2: Farnell; Supplier Part Number 2: 1469121; RoHS: Y; PinCount: 8; Code_JEDEC: MS-012-AA; Code_IPC: SOIC127P600-8; ComponentLink1Description: LP2951 Datasheet; ComponentLink1URL: http://www.national.com/ds/LP/LP2951.pdf; ComponentLink2Description: LP2951 Web Page; ComponentLink2URL: http://www.national.com/pf/LP/LP2951.html; ComponentLink3Description: M08A Package Page; ComponentLink3URL: http://www.national.com/packaging/folders/m08a.html
footprint M08A_N (SOIC, 8-Leads, Body 4.9x3.9mm, Pitch 1.27mm, IPC Medium Density)
footprint M08A_L (SOIC, 8-Leads, Body 4.9x3.9mm, Pitch 1.27mm, IPC High Density)
footprint M08A_M (SOIC, 8-Leads, Body 4.9x3.9mm, Pitch 1.27mm, IPC Low Density)
pins: 1 OUT (power), 2 SNS, 3 SD (in), 4 GND (power), 5 ~{ERR} (oc), 6 VTAP, 7 FB (in), 8 IN (power)

## LP2951CM/NOPB
designator U?
Series of Adjustable Micropower Voltage Regulators, 8-pin Narrow SOIC, Pb-Free; PartNumber: LP2951CM/NOPB; Manufacturer: National Semiconductor; PackageTopMarking: NSZXTT*2951*CMDD; PowerWise: N; CompType: LDO IC; Published: 1-Mar-2010; DatasheetVersion: Jun-2009; PackageVersion: revM, May-2009; PackageReference: M08A; Publisher: Altium Limited; PackageDescription: SOIC Narrow, 4.9 x 3.9 x 1.45mm, 8 Lead, 1.27mm Pitch; Supplier 1: Digi-Key; Supplier Part Number 1: LP2951CM-ND; Supplier 2: Farnell; Supplier Part Number 2: 1469026; RoHS: Y; PinCount: 8; Code_JEDEC: MS-012-AA; Code_IPC: SOIC127P600-8; ComponentLink1Description: LP2951 Datasheet; ComponentLink1URL: http://www.national.com/ds/LP/LP2951.pdf; ComponentLink2Description: LP2951 Web Page; ComponentLink2URL: http://www.national.com/pf/LP/LP2951.html; ComponentLink3Description: M08A Package Page; ComponentLink3URL: http://www.national.com/packaging/folders/m08a.html
footprint M08A_N (SOIC, 8-Leads, Body 4.9x3.9mm, Pitch 1.27mm, IPC Medium Density)
footprint M08A_L (SOIC, 8-Leads, Body 4.9x3.9mm, Pitch 1.27mm, IPC High Density)
footprint M08A_M (SOIC, 8-Leads, Body 4.9x3.9mm, Pitch 1.27mm, IPC Low Density)
pins: 1 OUT (power), 2 SNS, 3 SD (in), 4 GND (power), 5 ~{ERR} (oc), 6 VTAP, 7 FB (in), 8 IN (power)

## LP2951CMM
designator U?
Series of Adjustable Micropower Voltage Regulators, 8-pin Mini SOIC; PartNumber: LP2951CMM; Manufacturer: National Semiconductor; PackageTopMarking: ZXTT*L0DB; PowerWise: N; CompType: LDO IC; Published: 4-Dec-2008; LatestRevisionDate: 07-Sep-2009; LatestRevisionNote: Bar removed from pin 3; DatasheetVersion: Jun-2009; PackageVersion: revF, Apr-2008; PackageReference: MUA08A; Publisher: Altium Limited; PackageDescription: MINI SOIC, .118 x .118 x .034in, 8 Lead, .0256in Pitch; Supplier 1: Farnell; Supplier Part Number 1: 1652320; RoHS: N; PinCount: 8; Code_JEDEC: MO-187-AA; ComponentLink1Description: LP2951 Datasheet; ComponentLink1URL: http://www.national.com/ds/LP/LP2951.pdf; ComponentLink2Description: LP2951 Web Page; ComponentLink2URL: http://www.national.com/pf/LP/LP2951.html; ComponentLink3Description: MUA08A Package Page; ComponentLink3URL: http://www.national.com/packaging/folders/mua08a.html
footprint MUA08A_N (TSOP, 8-Leads, Body 3x3mm, Pitch 0.65mm, IPC Medium Density)
footprint MUA08A_L (TSOP, 8-Leads, Body 3x3mm, Pitch 0.65mm, IPC High Density)
footprint MUA08A_M (TSOP, 8-Leads, Body 3x3mm, Pitch 0.65mm, IPC Low Density)
pins: 1 OUT (power), 2 SNS, 3 SD (in), 4 GND (power), 5 ~{ERR} (oc), 6 VTAP, 7 FB (in), 8 IN (power)

## LP2951CMM-3.0
designator U?
Series of Adjustable Micropower Voltage Regulators, 8-pin Mini SOIC; PartNumber: LP2951CMM-3.0; Manufacturer: National Semiconductor; PackageTopMarking: ZXTT*L0BB; PowerWise: N; CompType: LDO IC; Published: 4-Dec-2008; LatestRevisionDate: 07-Sep-2009; LatestRevisionNote: Bar removed from pin 3; DatasheetVersion: Jun-2009; PackageVersion: revF, Apr-2008; PackageReference: MUA08A; Publisher: Altium Limited; PackageDescription: MINI SOIC, .118 x .118 x .034in, 8 Lead, .0256in Pitch; Supplier 1: Digi-Key; Supplier Part Number 1: LP2951CMM-3.0TR-ND; Supplier 2: Digi-Key; Supplier Part Number 2: LP2951CMM-3.0CT-ND; Supplier 3: Digi-Key; Supplier Part Number 3: LP2951CMM-3.0DKR-ND; RoHS: N; PinCount: 8; Code_JEDEC: MO-187-AA; ComponentLink1Description: LP2951 Datasheet; ComponentLink1URL: http://www.national.com/ds/LP/LP2951.pdf; ComponentLink2Description: LP2951 Web Page; ComponentLink2URL: http://www.national.com/pf/LP/LP2951.html; ComponentLink3Description: MUA08A Package Page; ComponentLink3URL: http://www.national.com/packaging/folders/mua08a.html
footprint MUA08A_N (TSOP, 8-Leads, Body 3x3mm, Pitch 0.65mm, IPC Medium Density)
footprint MUA08A_L (TSOP, 8-Leads, Body 3x3mm, Pitch 0.65mm, IPC High Density)
footprint MUA08A_M (TSOP, 8-Leads, Body 3x3mm, Pitch 0.65mm, IPC Low Density)
pins: 1 OUT (power), 2 SNS, 3 SD (in), 4 GND (power), 5 ~{ERR} (oc), 6 VTAP, 7 FB (in), 8 IN (power)

## LP2951CMM-3.0/NOPB
designator U?
Series of Adjustable Micropower Voltage Regulators, 8-pin Mini SOIC, Pb-Free; PartNumber: LP2951CMM-3.0/NOPB; Manufacturer: National Semiconductor; PackageTopMarking: ZXTT*L0BB; PowerWise: N; CompType: LDO IC; Published: 1-Mar-2010; DatasheetVersion: Jun-2009; PackageVersion: revF, Apr-2008; PackageReference: MUA08A; Publisher: Altium Limited; PackageDescription: MINI SOIC, .118 x .118 x .034in, 8 Lead, .0256in Pitch; RoHS: Y; PinCount: 8; Code_JEDEC: MO-187-AA; ComponentLink1Description: LP2951 Datasheet; ComponentLink1URL: http://www.national.com/ds/LP/LP2951.pdf; ComponentLink2Description: LP2951 Web Page; ComponentLink2URL: http://www.national.com/pf/LP/LP2951.html; ComponentLink3Description: MUA08A Package Page; ComponentLink3URL: http://www.national.com/packaging/folders/mua08a.html
footprint MUA08A_N (TSOP, 8-Leads, Body 3x3mm, Pitch 0.65mm, IPC Medium Density)
footprint MUA08A_L (TSOP, 8-Leads, Body 3x3mm, Pitch 0.65mm, IPC High Density)
footprint MUA08A_M (TSOP, 8-Leads, Body 3x3mm, Pitch 0.65mm, IPC Low Density)
pins: 1 OUT (power), 2 SNS, 3 SD (in), 4 GND (power), 5 ~{ERR} (oc), 6 VTAP, 7 FB (in), 8 IN (power)

## LP2951CMM-3.3
designator U?
Series of Adjustable Micropower Voltage Regulators, 8-pin Mini SOIC; PartNumber: LP2951CMM-3.3; Manufacturer: National Semiconductor; PackageTopMarking: ZXTT*L0CB; PowerWise: N; CompType: LDO IC; Published: 4-Dec-2008; LatestRevisionDate: 07-Sep-2009; LatestRevisionNote: Bar removed from pin 3; DatasheetVersion: Jun-2009; PackageVersion: revF, Apr-2008; PackageReference: MUA08A; Publisher: Altium Limited; PackageDescription: MINI SOIC, .118 x .118 x .034in, 8 Lead, .0256in Pitch; RoHS: N; PinCount: 8; Code_JEDEC: MO-187-AA; ComponentLink1Description: LP2951 Datasheet; ComponentLink1URL: http://www.national.com/ds/LP/LP2951.pdf; ComponentLink2Description: LP2951 Web Page; ComponentLink2URL: http://www.national.com/pf/LP/LP2951.html; ComponentLink3Description: MUA08A Package Page; ComponentLink3URL: http://www.national.com/packaging/folders/mua08a.html
footprint MUA08A_N (TSOP, 8-Leads, Body 3x3mm, Pitch 0.65mm, IPC Medium Density)
footprint MUA08A_L (TSOP, 8-Leads, Body 3x3mm, Pitch 0.65mm, IPC High Density)
footprint MUA08A_M (TSOP, 8-Leads, Body 3x3mm, Pitch 0.65mm, IPC Low Density)
pins: 1 OUT (power), 2 SNS, 3 SD (in), 4 GND (power), 5 ~{ERR} (oc), 6 VTAP, 7 FB (in), 8 IN (power)

## LP2951CMM-3.3/NOPB
designator U?
Series of Adjustable Micropower Voltage Regulators, 8-pin Mini SOIC, Pb-Free; PartNumber: LP2951CMM-3.3/NOPB; Manufacturer: National Semiconductor; PackageTopMarking: ZXTT*L0CB; PowerWise: N; CompType: LDO IC; Published: 1-Mar-2010; DatasheetVersion: Jun-2009; PackageVersion: revF, Apr-2008; PackageReference: MUA08A; Publisher: Altium Limited; PackageDescription: MINI SOIC, .118 x .118 x .034in, 8 Lead, .0256in Pitch; Supplier 1: Digi-Key; Supplier Part Number 1: LP2951CMM-3.3TR-ND; Supplier 2: Digi-Key; Supplier Part Number 2: LP2951CMM-3.3CT-ND; Supplier 3: Digi-Key; Supplier Part Number 3: LP2951CMM-3.3DKR-ND; Supplier 4: Farnell; Supplier Part Number 4: 1559561; RoHS: Y; PinCount: 8; Code_JEDEC: MO-187-AA; ComponentLink1Description: LP2951 Datasheet; ComponentLink1URL: http://www.national.com/ds/LP/LP2951.pdf; ComponentLink2Description: LP2951 Web Page; ComponentLink2URL: http://www.national.com/pf/LP/LP2951.html; ComponentLink3Description: MUA08A Package Page; ComponentLink3URL: http://www.national.com/packaging/folders/mua08a.html
footprint MUA08A_N (TSOP, 8-Leads, Body 3x3mm, Pitch 0.65mm, IPC Medium Density)
footprint MUA08A_L (TSOP, 8-Leads, Body 3x3mm, Pitch 0.65mm, IPC High Density)
footprint MUA08A_M (TSOP, 8-Leads, Body 3x3mm, Pitch 0.65mm, IPC Low Density)
pins: 1 OUT (power), 2 SNS, 3 SD (in), 4 GND (power), 5 ~{ERR} (oc), 6 VTAP, 7 FB (in), 8 IN (power)

## LP2951CMM/NOPB
designator U?
Series of Adjustable Micropower Voltage Regulators, 8-pin Mini SOIC, Pb-Free; PartNumber: LP2951CMM/NOPB; Manufacturer: National Semiconductor; PackageTopMarking: ZXTT*L0DB; PowerWise: N; CompType: LDO IC; Published: 1-Mar-2010; DatasheetVersion: Jun-2009; PackageVersion: revF, Apr-2008; PackageReference: MUA08A; Publisher: Altium Limited; PackageDescription: MINI SOIC, .118 x .118 x .034in, 8 Lead, .0256in Pitch; Supplier 1: Digi-Key; Supplier Part Number 1: LP2951CMMTR-ND; Supplier 2: Digi-Key; Supplier Part Number 2: LP2951CMMCT-ND; Supplier 3: Digi-Key; Supplier Part Number 3: LP2951CMMDKR-ND; RoHS: Y; PinCount: 8; Code_JEDEC: MO-187-AA; ComponentLink1Description: LP2951 Datasheet; ComponentLink1URL: http://www.national.com/ds/LP/LP2951.pdf; ComponentLink2Description: LP2951 Web Page; ComponentLink2URL: http://www.national.com/pf/LP/LP2951.html; ComponentLink3Description: MUA08A Package Page; ComponentLink3URL: http://www.national.com/packaging/folders/mua08a.html
footprint MUA08A_N (TSOP, 8-Leads, Body 3x3mm, Pitch 0.65mm, IPC Medium Density)
footprint MUA08A_L (TSOP, 8-Leads, Body 3x3mm, Pitch 0.65mm, IPC High Density)
footprint MUA08A_M (TSOP, 8-Leads, Body 3x3mm, Pitch 0.65mm, IPC Low Density)
pins: 1 OUT (power), 2 SNS, 3 SD (in), 4 GND (power), 5 ~{ERR} (oc), 6 VTAP, 7 FB (in), 8 IN (power)

## LP2951CMMX
designator U?
Series of Adjustable Micropower Voltage Regulators, 8-pin Mini SOIC; PartNumber: LP2951CMMX; Manufacturer: National Semiconductor; PackageTopMarking: ZXTT*L0DB; PowerWise: N; CompType: LDO IC; Published: 1-Mar-2010; DatasheetVersion: Jun-2009; PackageVersion: revF, Apr-2008; PackageReference: MUA08A; Publisher: Altium Limited; PackageDescription: MINI SOIC, .118 x .118 x .034in, 8 Lead, .0256in Pitch; RoHS: N; PinCount: 8; Code_JEDEC: MO-187-AA; ComponentLink1Description: LP2951 Datasheet; ComponentLink1URL: http://www.national.com/ds/LP/LP2951.pdf; ComponentLink2Description: LP2951 Web Page; ComponentLink2URL: http://www.national.com/pf/LP/LP2951.html; ComponentLink3Description: MUA08A Package Page; ComponentLink3URL: http://www.national.com/packaging/folders/mua08a.html
footprint MUA08A_N (TSOP, 8-Leads, Body 3x3mm, Pitch 0.65mm, IPC Medium Density)
footprint MUA08A_L (TSOP, 8-Leads, Body 3x3mm, Pitch 0.65mm, IPC High Density)
footprint MUA08A_M (TSOP, 8-Leads, Body 3x3mm, Pitch 0.65mm, IPC Low Density)
pins: 1 OUT (power), 2 SNS, 3 SD (in), 4 GND (power), 5 ~{ERR} (oc), 6 VTAP, 7 FB (in), 8 IN (power)

## LP2951CMMX-3.0
designator U?
Series of Adjustable Micropower Voltage Regulators, 8-pin Mini SOIC; PartNumber: LP2951CMMX-3.0; Manufacturer: National Semiconductor; PackageTopMarking: ZXTT*L0BB; PowerWise: N; CompType: LDO IC; Published: 1-Mar-2010; DatasheetVersion: Jun-2009; PackageVersion: revF, Apr-2008; PackageReference: MUA08A; Publisher: Altium Limited; PackageDescription: MINI SOIC, .118 x .118 x .034in, 8 Lead, .0256in Pitch; RoHS: N; PinCount: 8; Code_JEDEC: MO-187-AA; ComponentLink1Description: LP2951 Datasheet; ComponentLink1URL: http://www.national.com/ds/LP/LP2951.pdf; ComponentLink2Description: LP2951 Web Page; ComponentLink2URL: http://www.national.com/pf/LP/LP2951.html; ComponentLink3Description: MUA08A Package Page; ComponentLink3URL: http://www.national.com/packaging/folders/mua08a.html
footprint MUA08A_N (TSOP, 8-Leads, Body 3x3mm, Pitch 0.65mm, IPC Medium Density)
footprint MUA08A_L (TSOP, 8-Leads, Body 3x3mm, Pitch 0.65mm, IPC High Density)
footprint MUA08A_M (TSOP, 8-Leads, Body 3x3mm, Pitch 0.65mm, IPC Low Density)
pins: 1 OUT (power), 2 SNS, 3 SD (in), 4 GND (power), 5 ~{ERR} (oc), 6 VTAP, 7 FB (in), 8 IN (power)

## LP2951CMMX-3.3
designator U?
Series of Adjustable Micropower Voltage Regulators, 8-pin Mini SOIC; PartNumber: LP2951CMMX-3.3; Manufacturer: National Semiconductor; PackageTopMarking: ZXTT*L0CB; PowerWise: N; CompType: LDO IC; Published: 1-Mar-2010; DatasheetVersion: Jun-2009; PackageVersion: revF, Apr-2008; PackageReference: MUA08A; Publisher: Altium Limited; PackageDescription: MINI SOIC, .118 x .118 x .034in, 8 Lead, .0256in Pitch; RoHS: N; PinCount: 8; Code_JEDEC: MO-187-AA; ComponentLink1Description: LP2951 Datasheet; ComponentLink1URL: http://www.national.com/ds/LP/LP2951.pdf; ComponentLink2Description: LP2951 Web Page; ComponentLink2URL: http://www.national.com/pf/LP/LP2951.html; ComponentLink3Description: MUA08A Package Page; ComponentLink3URL: http://www.national.com/packaging/folders/mua08a.html
footprint MUA08A_N (TSOP, 8-Leads, Body 3x3mm, Pitch 0.65mm, IPC Medium Density)
footprint MUA08A_L (TSOP, 8-Leads, Body 3x3mm, Pitch 0.65mm, IPC High Density)
footprint MUA08A_M (TSOP, 8-Leads, Body 3x3mm, Pitch 0.65mm, IPC Low Density)
pins: 1 OUT (power), 2 SNS, 3 SD (in), 4 GND (power), 5 ~{ERR} (oc), 6 VTAP, 7 FB (in), 8 IN (power)

## LP2951CMX
designator U?
Series of Adjustable Micropower Voltage Regulators, 8-pin Narrow SOIC; PartNumber: LP2951CMX; Manufacturer: National Semiconductor; PackageTopMarking: NSZXTT*2951*CMDD; PowerWise: N; CompType: LDO IC; Published: 1-Mar-2010; DatasheetVersion: Jun-2009; PackageVersion: revM, May-2009; PackageReference: M08A; Publisher: Altium Limited; PackageDescription: SOIC Narrow, 4.9 x 3.9 x 1.45mm, 8 Lead, 1.27mm Pitch; RoHS: N; PinCount: 8; Code_JEDEC: MS-012-AA; Code_IPC: SOIC127P600-8; ComponentLink1Description: LP2951 Datasheet; ComponentLink1URL: http://www.national.com/ds/LP/LP2951.pdf; ComponentLink2Description: LP2951 Web Page; ComponentLink2URL: http://www.national.com/pf/LP/LP2951.html; ComponentLink3Description: M08A Package Page; ComponentLink3URL: http://www.national.com/packaging/folders/m08a.html
footprint M08A_N (SOIC, 8-Leads, Body 4.9x3.9mm, Pitch 1.27mm, IPC Medium Density)
footprint M08A_L (SOIC, 8-Leads, Body 4.9x3.9mm, Pitch 1.27mm, IPC High Density)
footprint M08A_M (SOIC, 8-Leads, Body 4.9x3.9mm, Pitch 1.27mm, IPC Low Density)
pins: 1 OUT (power), 2 SNS, 3 SD (in), 4 GND (power), 5 ~{ERR} (oc), 6 VTAP, 7 FB (in), 8 IN (power)

## LP2951CMX-3.0
designator U?
Series of Adjustable Micropower Voltage Regulators, 8-pin Narrow SOIC; PartNumber: LP2951CMX-3.0; Manufacturer: National Semiconductor; PackageTopMarking: NSZXTT*2951C*M30DD; PowerWise: N; CompType: LDO IC; Published: 1-Mar-2010; DatasheetVersion: Jun-2009; PackageVersion: revM, May-2009; PackageReference: M08A; Publisher: Altium Limited; PackageDescription: SOIC Narrow, 4.9 x 3.9 x 1.45mm, 8 Lead, 1.27mm Pitch; RoHS: N; PinCount: 8; Code_JEDEC: MS-012-AA; Code_IPC: SOIC127P600-8; ComponentLink1Description: LP2951 Datasheet; ComponentLink1URL: http://www.national.com/ds/LP/LP2951.pdf; ComponentLink2Description: LP2951 Web Page; ComponentLink2URL: http://www.national.com/pf/LP/LP2951.html; ComponentLink3Description: M08A Package Page; ComponentLink3URL: http://www.national.com/packaging/folders/m08a.html
footprint M08A_N (SOIC, 8-Leads, Body 4.9x3.9mm, Pitch 1.27mm, IPC Medium Density)
footprint M08A_L (SOIC, 8-Leads, Body 4.9x3.9mm, Pitch 1.27mm, IPC High Density)
footprint M08A_M (SOIC, 8-Leads, Body 4.9x3.9mm, Pitch 1.27mm, IPC Low Density)
pins: 1 OUT (power), 2 SNS, 3 SD (in), 4 GND (power), 5 ~{ERR} (oc), 6 VTAP, 7 FB (in), 8 IN (power)

## LP2951CMX-3.3
designator U?
Series of Adjustable Micropower Voltage Regulators, 8-pin Narrow SOIC; PartNumber: LP2951CMX-3.3; Manufacturer: National Semiconductor; PackageTopMarking: NSZXTT*2951C*M33DD; PowerWise: N; CompType: LDO IC; Published: 1-Mar-2010; DatasheetVersion: Jun-2009; PackageVersion: revM, May-2009; PackageReference: M08A; Publisher: Altium Limited; PackageDescription: SOIC Narrow, 4.9 x 3.9 x 1.45mm, 8 Lead, 1.27mm Pitch; RoHS: N; PinCount: 8; Code_JEDEC: MS-012-AA; Code_IPC: SOIC127P600-8; ComponentLink1Description: LP2951 Datasheet; ComponentLink1URL: http://www.national.com/ds/LP/LP2951.pdf; ComponentLink2Description: LP2951 Web Page; ComponentLink2URL: http://www.national.com/pf/LP/LP2951.html; ComponentLink3Description: M08A Package Page; ComponentLink3URL: http://www.national.com/packaging/folders/m08a.html
footprint M08A_N (SOIC, 8-Leads, Body 4.9x3.9mm, Pitch 1.27mm, IPC Medium Density)
footprint M08A_L (SOIC, 8-Leads, Body 4.9x3.9mm, Pitch 1.27mm, IPC High Density)
footprint M08A_M (SOIC, 8-Leads, Body 4.9x3.9mm, Pitch 1.27mm, IPC Low Density)
pins: 1 OUT (power), 2 SNS, 3 SD (in), 4 GND (power), 5 ~{ERR} (oc), 6 VTAP, 7 FB (in), 8 IN (power)